# Altium schematic symbol library SCH library.SchLib: 16 symbols
Pins are listed as number, name and electrical type; pins without a type are passive.

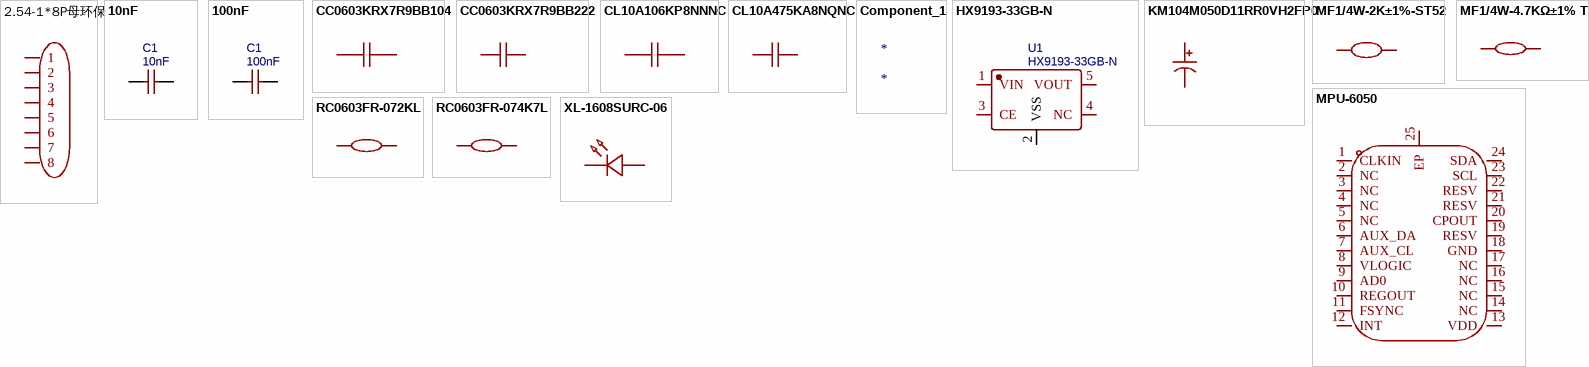
[diagram p0: symbols 2.54-1*8P母环保 to XL-1608SURC-06]

## 2.54-1*8P母环保
designator P?  (value not drawn)
Manufacturer: BOOMELE(博穆精密); Symbol: Header-Female-2.54_1x8; Add into BOM: yes; Holes Structure: 1x8P; Pitch: 2.54mm; Number of Holes: 8P; Device: 2.54-1*8P母环保; LCSC Part Name: 间距:2.54mm 1x8P 直插; Supplier Part: C27438; Manufacturer Part: 2.54-1*8P母环保; Supplier Footprint: 插件,P=2.54mm; JLCPCB Part Class: Extended Part; Datasheet: https://atta.szlcsc.com/upload/public/pdf/source/20231221/1CA800C6799ED97958773716FAA1BFFE.pdf; Supplier: LCSC; Convert to PCB: yes; Row Spacing: -; Mounting Type: Straight; Number of Rows: Plugin; Insulation Height: -; Contact Material: -; Contact Plating: -
footprint HDR-TH_8P-P2.54-V-F-1
3D model HDR-F-2.54_1x8
pins: 1, 2, 3, 4, 5, 6, 7, 8

## 10nF
designator C1
Manufacturer Part: CL10B103KB8NNNC; Manufacturer: SAMSUNG(三星); nameAlias: Value; Supplier: LCSC; Supplier Part: C1589; JLCPCB Part Class: Extended Part; spicePre: C; spiceSymbolName: CL10B103KB8NNNC
footprint C0603
pins: 1, 2

## 100nF
designator C1
Manufacturer: FH(风华); Manufacturer Part: 0603B104K500NT; nameAlias: Value; Supplier: LCSC; Supplier Part: C30926; JLCPCB Part Class: Extended Part; spicePre: C; spiceSymbolName: 0603B104K500NT
footprint C0603
pins: 1, 2

## CC0603KRX7R9BB104
designator C?, comment 100nF  (value not drawn)
Manufacturer: YAGEO(国巨); Symbol: CC0603KRX7R9BB104; Add into BOM: yes; Tolerance: ±10%; Device: CC0603KRX7R9BB104; LCSC Part Name: 100nF ±10% 50V; Supplier Part: C14663; Manufacturer Part: CC0603KRX7R9BB104; Supplier Footprint: 0603; JLCPCB Part Class: Basic Part; Datasheet: https://atta.szlcsc.com/upload/public/pdf/source/20180910/C282072_33301C7F631E79921B82A8DAC6BCC5B3.pdf; Supplier: LCSC; Convert to PCB: yes; Value: 100nF
footprint C0603
3D model C0603_L1.6-W0.8-H0.8
pins: 1, 2

## CC0603KRX7R9BB222
designator C?, comment 2.2nF  (value not drawn)
Manufacturer: YAGEO(国巨); Symbol: CC0603KRX7R9BB222; Add into BOM: yes; Tolerance: ±10%; Device: CC0603KRX7R9BB222; LCSC Part Name: 2.2nF ±10% 50V; Supplier Part: C107082; Manufacturer Part: CC0603KRX7R9BB222; Supplier Footprint: 0603; JLCPCB Part Class: Extended Part; Datasheet: https://atta.szlcsc.com/upload/public/pdf/source/20180910/C282072_33301C7F631E79921B82A8DAC6BCC5B3.pdf; Supplier: LCSC; Convert to PCB: yes; Value: 2.2nF
footprint C0603
3D model C0603_L1.6-W0.8-H0.8
pins: 1, 2

## CL10A106KP8NNNC
designator C?, comment 10uF  (value not drawn)
Manufacturer: SAMSUNG(三星); Symbol: CL10A106KP8NNNC; Add into BOM: yes; Tolerance: ±10%; Device: CL10A106KP8NNNC; LCSC Part Name: 10uF ±10% 10V; Supplier Part: C19702; Manufacturer Part: CL10A106KP8NNNC; Supplier Footprint: 0603; JLCPCB Part Class: Basic Part; Datasheet: https://atta.szlcsc.com/upload/public/pdf/source/20160218/1457707763339.pdf; Supplier: LCSC; Convert to PCB: yes; Value: 10uF
footprint C0603
3D model C0603_L1.6-W0.8-H0.8
pins: 1, 2

## CL10A475KA8NQNC
designator C?, comment 4.7uF  (value not drawn)
Manufacturer: SAMSUNG(三星); Symbol: CL10A475KA8NQNC; Add into BOM: yes; Tolerance: ±10%; Device: CL10A475KA8NQNC; LCSC Part Name: 4.7uF ±10% 25V; Supplier Part: C69335; Manufacturer Part: CL10A475KA8NQNC; Supplier Footprint: 0603; JLCPCB Part Class: Extended Part; Datasheet: https://atta.szlcsc.com/upload/public/pdf/source/20161108/1478586410580.pdf; Supplier: LCSC; Convert to PCB: yes; Value: 4.7uF
footprint C0603
3D model C0603_L1.6-W0.8-H0.8
pins: 1, 2

## Component_1
designator *

## HX9193-33GB-N
designator U1
Manufacturer: HX(恒佳兴); Contributor: lcsc; Supplier: LCSC; Supplier Part: C2995655; Manufacturer Part: HX9193-33GB-N; JLCPCB Part Class: Extended Part; spicePre: U; spiceSymbolName: HX9193-33GB-N
footprint SOT-23-5_L2.9-W1.6-P0.95-LS2.8-BL
pins: 1 VIN, 2 VSS, 3 CE, 4 NC, 5 VOUT

## KM104M050D11RR0VH2FP0
designator C?, comment 100nF  (value not drawn)
Manufacturer: CX(承兴); Symbol: 0.1UF 50V; Device: KM104M050D11RR0VH2FP0; Add into BOM: yes; Tolerance: ±20%; Lifetime @ Temp: 1000hrs@105℃; LCSC Part Name: 100nF ±20% 50V; Supplier Part: C28061; Manufacturer Part: KM104M050D11RR0VH2FP0; Supplier Footprint: 插件,D5xL11mm; JLCPCB Part Class: Extended Part; Datasheet: https://atta.szlcsc.com/upload/public/pdf/source/20211027/06D6BA3719C264B639DC286D935D03EA.pdf; Supplier: LCSC; Convert to PCB: yes; Value: 100nF
footprint CAP-TH_BD5.0-P2.00-D0.8-FD
3D model CAP-TH_D5.0×H7.0×P2.0
pins: 1, 2

## MF1/4W-2K±1%-ST52
designator U?, comment 2kΩ  (value not drawn)
Manufacturer: VO(翔胜); Symbol: MF1/4W-2K±1%-ST52; Add into BOM: yes; Tolerance: ±1%; Overload Voltage (Max): 250V; Power(Watts): 250mW; Temperature Coefficient: ±100ppm/℃; Device: MF1/4W-2K±1%-ST52; LCSC Part Name: 金属膜电阻 2kΩ ±1% 250mW; Supplier Part: C2903278; Manufacturer Part: MF1/4W-2K±1%-ST52; Supplier Footprint: 插件,D2.7xL6.2mm; JLCPCB Part Class: Extended Part; Datasheet: https://atta.szlcsc.com/upload/public/pdf/source/20200609/C601728_5AA4C0C8E12E11069DA2C3356F29D1F2.pdf; Supplier: LCSC; Convert to PCB: yes; Type: Metal Film Resistors; Value: 2kΩ; Operating Temperature Range: -55℃~+155℃
footprint RES-TH_BD2.7-L6.2-P10.20-D0.4
3D model RES-TH_BD2.7-L6.2-P10.20-D0.4
pins: 1, 2

## MF1/4W-4.7KΩ±1% T
designator R?, comment 4.7kΩ  (value not drawn)
Manufacturer: CCO(千志电子); Symbol: MF1/4W-4.7KΩ±1% T52; Device: MF1/4W-4.7KΩ±1% T; Add into BOM: yes; Tolerance: ±1%; Voltage-Supply(Max): 250V; Power(Watts): 250mW; Temperature Coefficient: ±100ppm/℃; LCSC Part Name: 4.7kΩ ±1% 250mW 金属膜电阻; Supplier Part: C119339; Manufacturer Part: MF1/4W-4.7KΩ±1% T; Supplier Footprint: 插件,D2.3xL6.5mm; JLCPCB Part Class: Extended Part; Datasheet: https://atta.szlcsc.com/upload/public/pdf/source/20190910/C427326_62A6D058BC0FF74963A2F22379CA06CE.pdf; Supplier: LCSC; Convert to PCB: yes; Type: Metal Film Resistors; Value: 4.7kΩ; Operating Temperature: -55℃~+155℃
footprint RES-TH_BD2.3-L6.5-P10.50-D0.5
3D model RES-TH_D2.3-L6.5-P10.50
pins: 1, 2

## MPU-6050
designator U?  (value not drawn)
Manufacturer: TDK InvenSense(应美盛); Symbol: MPU-6050_C24112; Add into BOM: yes; Sensor Type: 加速度计陀螺仪; Device: MPU-6050; LCSC Part Name: MPU-6050; Supplier Part: C24112; Manufacturer Part: MPU-6050; Supplier Footprint: QFN-24-EP(4x4); JLCPCB Part Class: Extended Part; Datasheet: https://atta.szlcsc.com/upload/public/pdf/source/20140425/1457707046159.pdf; Supplier: LCSC; Convert to PCB: yes; Operating Temperature: -40℃~+85℃
footprint QFN-24_L4.0-W4.0-P0.50-BL-EP2.7
3D model QFN-24_L4.0-W4.0-P0.50-BL-EP2.7
pins: 1 CLKIN, 2 NC, 3 NC, 4 NC, 5 NC, 6 AUX_DA, 7 AUX_CL, 8 VLOGIC, 9 AD0, 10 REGOUT, 11 FSYNC, 12 INT, 13 VDD, 14 NC, 15 NC, 16 NC, 17 NC, 18 GND, 19 RESV, 20 CPOUT, 21 RESV, 22 RESV, 23 SCL, 24 SDA, 25 EP

## RC0603FR-072KL
designator R?, comment 2kΩ  (value not drawn)
Manufacturer: YAGEO(国巨); Symbol: RC0603FR-072KL; Add into BOM: yes; Tolerance: ±1%; Power(Watts): 100mW; Voltage-Supply(Max): 75V; Temperature Coefficient: ±100ppm/℃; Device: RC0603FR-072KL; LCSC Part Name: 厚膜电阻 2kΩ ±1% 100mW; Supplier Part: C105576; Manufacturer Part: RC0603FR-072KL; Supplier Footprint: 0603; JLCPCB Part Class: Extended Part; Datasheet: https://atta.szlcsc.com/upload/public/pdf/source/20180316/70C0E2BDAE7FCC62C531A5A58D202EE1.pdf; Supplier: LCSC; Convert to PCB: yes; Type: Thick Film Resistors; Value: 2kΩ; Operating Temperature: -55℃~+155℃
footprint R0603
3D model R0603
pins: 1, 2

## RC0603FR-074K7L
designator R?, comment 4.7kΩ  (value not drawn)
Manufacturer: YAGEO(国巨); Symbol: RC0603FR-074K7L; Add into BOM: yes; Tolerance: ±1%; Temperature Coefficient: ±100ppm/℃; Device: RC0603FR-074K7L; LCSC Part Name: 厚膜电阻 4.7kΩ ±1% 100mW; Supplier Part: C99782; Manufacturer Part: RC0603FR-074K7L; Supplier Footprint: 0603; JLCPCB Part Class: Extended Part; Datasheet: https://atta.szlcsc.com/upload/public/pdf/source/20180224/C181757_15194369480721363983.pdf; Supplier: LCSC; Convert to PCB: yes; Type: Thick Film Resistors; Value: 4.7kΩ; Operating Temperature Range: -55℃~+155℃
footprint R0603
3D model R0603
pins: 1, 2

## XL-1608SURC-06
designator LED?  (value not drawn)
Manufacturer: XINGLIGHT(成兴光); Add into BOM: yes; Illumination Color: Red; Voltage - Forward(Vf): 2.3V; Power(Watts): 50mW; Forward Current: 20mA; Wavelength - Dominant: 620nm~630nm; Peak Wavelength: 625nm; Lens Color: Colorless Transparent Lens; Luminous Intensity: 225mcd; Viewing Angle: 120°; Mounting Sytle: Positive Stick; Symbol: XL-1608SURC-06; Device: XL-1608SURC-06; LCSC Part Name: XL-1608SURC-06; Supplier Part: C965799; Manufacturer Part: XL-1608SURC-06; Supplier Footprint: 0603; JLCPCB Part Class: Extended Part; Datasheet: https://atta.szlcsc.com/upload/public/pdf/source/20250213/F9766CE804AF391355DCDD48DB3E0DAB.pdf; Supplier: LCSC; Convert to PCB: yes; Lamp Holder Type: -; Diode Configuration: -; Color Temperature: -; Operating Temperature: -20℃~+85℃
footprint LED0603-RD_RED
3D model LED0603-RD_RED
pins: 1 K, 2 A